# Altium schematic symbol library SCH - POWER - SWITCHMODE - TI TPS43340-Q1_PHP_48.SchLib: 1 symbol
Pins are listed as number, name and electrical type; pins without a type are passive.

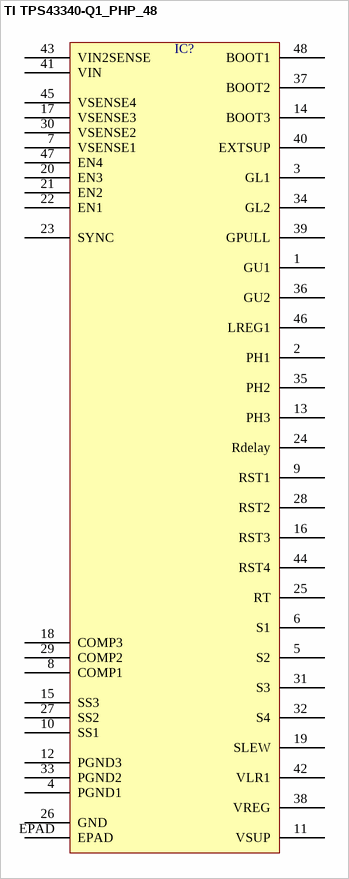
[diagram p0: symbol TI TPS43340-Q1_PHP_48]

## TI TPS43340-Q1_PHP_48
designator IC?  (value not drawn)
pins: 1 GU1, 2 PH1, 3 GL1, 4 PGND1, 5 S2, 6 S1, 7 VSENSE1, 8 COMP1, 9 RST1, 10 SS1, 11 VSUP, 12 PGND3, 13 PH3, 14 BOOT3, 15 SS3, 16 RST3, 17 VSENSE3, 18 COMP3, 19 SLEW, 20 EN3, 21 EN2, 22 EN1, 23 SYNC, 24 Rdelay, 25 RT, 26 GND, 27 SS2, 28 RST2, 29 COMP2, 30 VSENSE2, 31 S3, 32 S4, 33 PGND2, 34 GL2, 35 PH2, 36 GU2, 37 BOOT2, 38 VREG, 39 GPULL, 40 EXTSUP, 41 VIN, 42 VLR1, 43 VIN2SENSE, 44 RST4, 45 VSENSE4, 46 LREG1, 47 EN4, 48 BOOT1, EPAD